# Altium footprint library SnapEDApcb.PcbLib: 1 footprints
Each footprint in its own frame and in the unit in brackets; x right, y up, seen from the top. Pads: shape width x height; smd on the part's side, far side on the other; paste and mask are expansions set on the pad; w line width, h text height; cw(c..) or ccw(c..) is an arc to the next point about the centre after c.
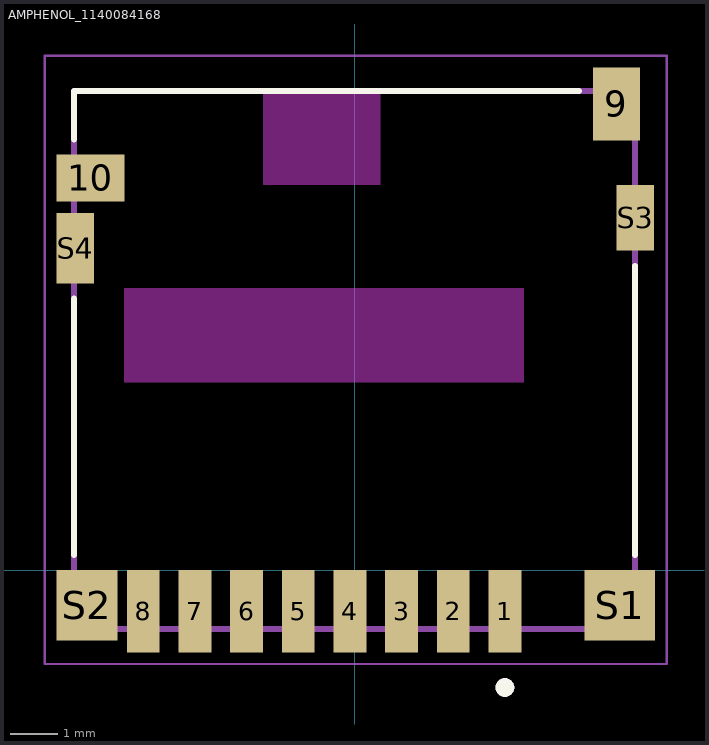
[diagram p0: the footprint, top view; thin cyan lines are the x and y axes]

## AMPHENOL_1140084168 [mm]
pads (14):
  rect 0.7x1.75 smd: 1(3.2,-0.875) 2(2.1,-0.875) 3(1,-0.875) 4(-0.1,-0.875) 5(-1.2,-0.875) 6(-2.3,-0.875) 7(-3.4,-0.875) 8(-4.5,-0.875)
  rect 1x1.55 smd: 9(5.575,9.925)
  rect 1.45x1 smd: 10(-5.625,8.35)
  rect 1.5x1.5 smd: S1(5.65,-0.75)
  rect 1.3x1.5 smd: S2(-5.7,-0.75)
  rect 0.8x1.4 smd: S3(5.975,7.5)
  rect 0.8x1.5 smd: S4(-5.95,6.85)
Top Overlay:
  circle w0.2: c3.2,-2.5 r0.1
  lines w0.127: -5.975,0.32 -5.975,5.78 ; -5.975,9.17 -5.975,10.2 4.78,10.2 ; 5.975,0.32 5.975,6.48
Keep-Out Layer:
  region: 3.6,4 -4.9,4 -4.9,6 3.6,6
  region: 0.55,8.2 -1.95,8.2 -1.95,10.2 0.55,10.2
  region: 0.55,8.2 -1.95,8.2 -1.95,10.2 0.55,10.2
  region: 3.6,4 -4.9,4 -4.9,6 3.6,6
Mechanical 13:
  circle w0.2: c3.2,-2.5 r0.1
  lines w0.127: -5.975,-1.25 -5.975,10.2 5.975,10.2 5.975,-1.25 -5.975,-1.25
Mechanical 15:
  lines w0.05: -6.6,-2 6.65,-2 6.65,10.95 -6.6,10.95 -6.6,-2